# EAGLE library part ATTINY11 (library ads4)
Atmel ATtiny11 microcontroller
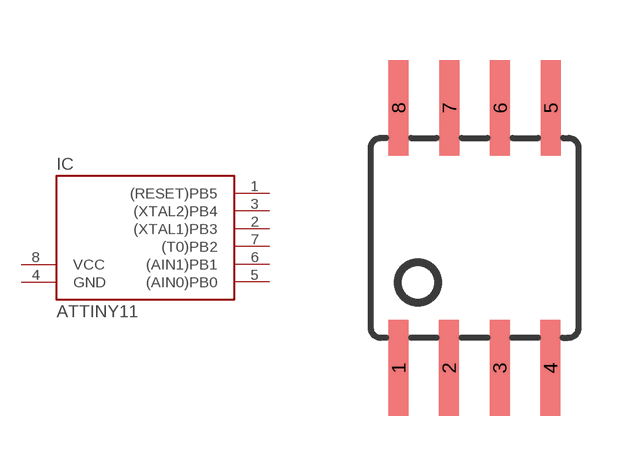
[diagram p68: symbol with the pads of SOIC8_0209; footprint SOIC8_0209]

Designator prefix IC

## ATTINY11S  [SOIC8_0209]
1  (RESET)PB5
2  (XTAL1)PB3
3  (XTAL2)PB4
4  GND  pwr
5  (AIN0)PB0
6  (AIN1)PB1
7  (T0)PB2
8  VCC  pwr

## Footprint SOIC8_0209 (pad centres in mm)
8-pin SOIC 8mm body 1.27mm pin spacing Also 0.209" body, 0.05" pin spacing From atmel.lbr SOIC8 package Pads elongated somewhat to ease hand soldering
smd 0.5 x 2.4: 1 -1.905,-3.254; 2 -0.645,-3.254; 3 0.625,-3.254; 4 1.895,-3.254; 5 1.905,3.254; 6 0.635,3.254; 7 -0.635,3.254; 8 -1.905,3.254